# Altium footprint library PCB1.PcbLib: 17 footprints (part 1 of 2)
Each footprint in its own frame and in the unit in brackets; x right, y up, seen from the top. Pads: shape width x height; smd on the part's side, far side on the other; paste and mask are expansions set on the pad; w line width, h text height; cw(c..) or ccw(c..) is an arc to the next point about the centre after c.
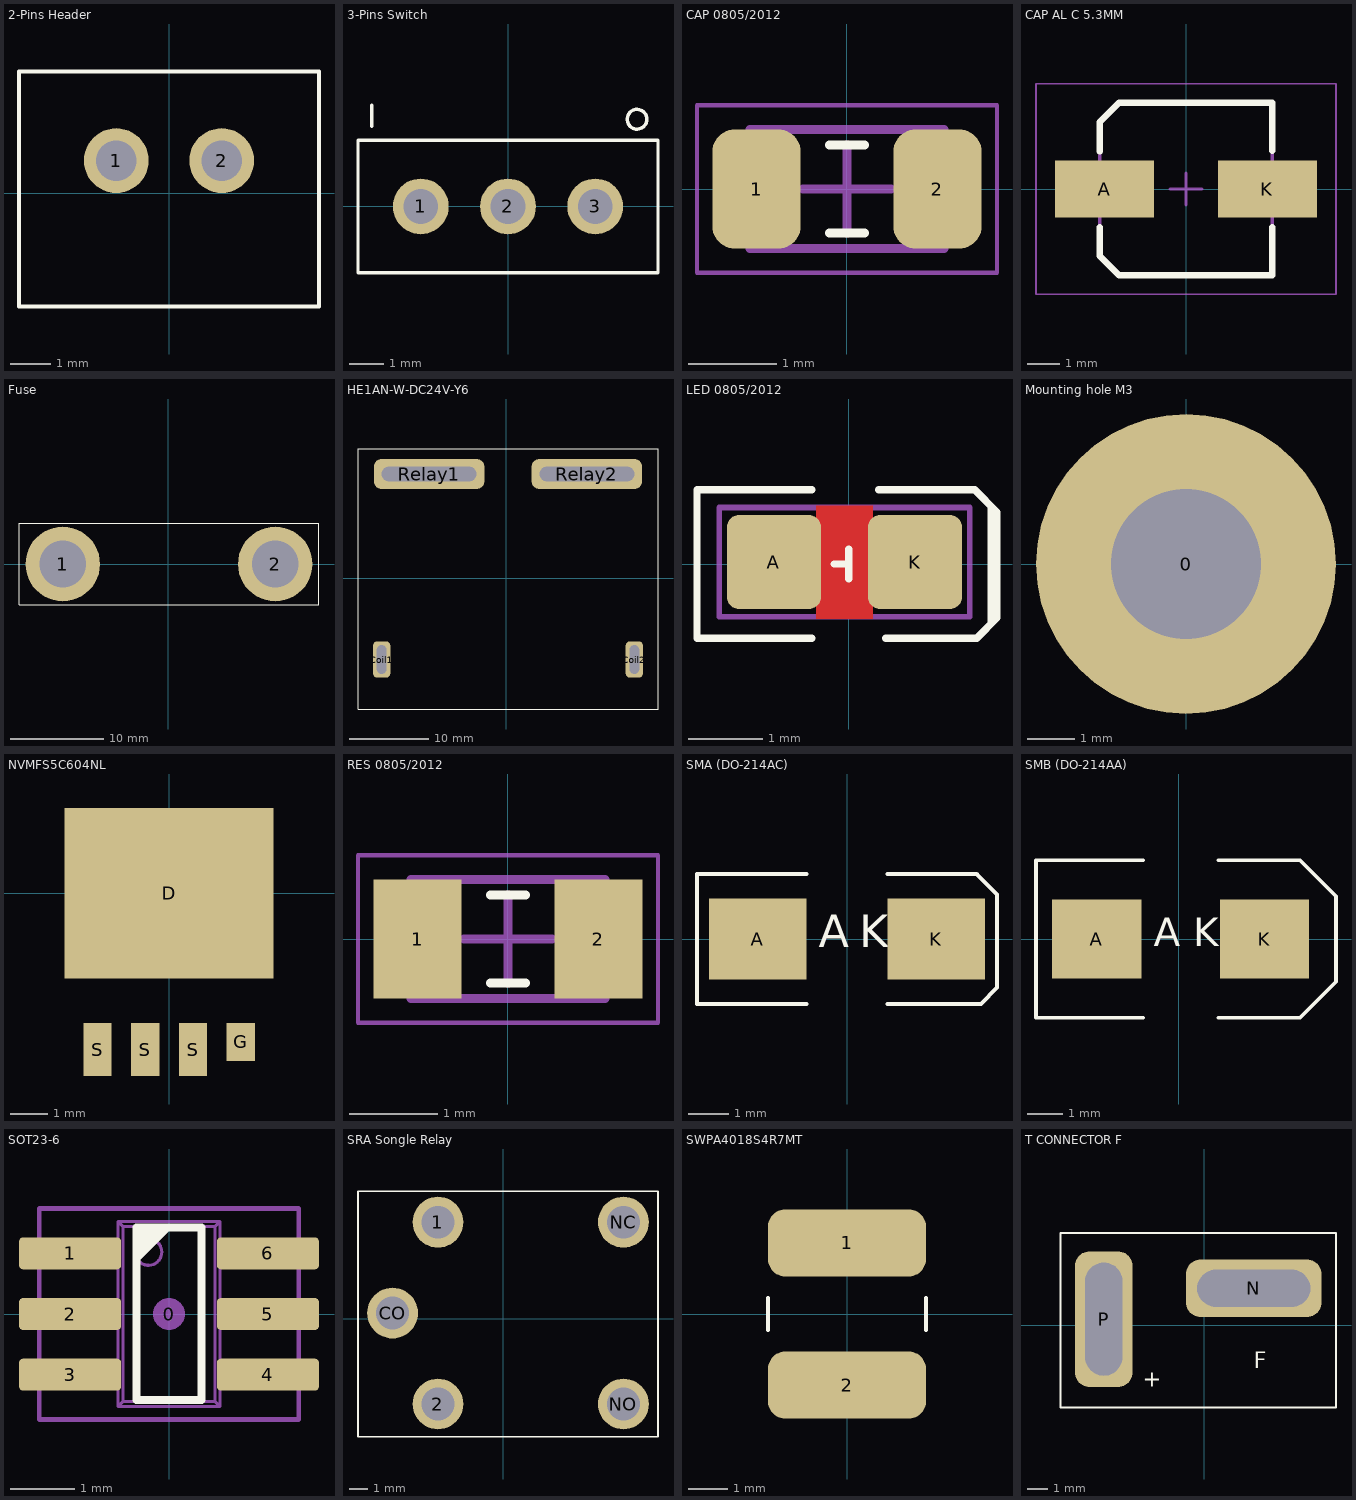
[diagram p0: the footprints below, top view; thin cyan lines are the x and y axes]

## 2-Pins Header [mm] "2-Pins Header with plastic surrounded"
pads (2):
  round 1.6 hole 1: 1(-1.3,0.8) 2(1.3,0.8)
Top Overlay:
  lines w0.1: -3.7,-2.8 -3.7,3 3.7,3 3.7,-2.8 -3.7,-2.8

## 3-Pins Switch [mm] "SS12d00G3"
pads (3):
  round 1.6 hole 1: 1(-2.5,0) 2(0,0) 3(2.5,0)
Top Overlay:
  circle w0.1: c3.7,2.5 r0.283
  lines w0.1: -3.9,2.3 -3.9,2.9 ; -4.3,-1.9 -4.3,1.9 4.3,1.9 4.3,-1.9 -4.3,-1.9

## CAP 0805/2012 [mm] "Cap ; 2.00x1.25mm ; EIA 0805 ; IPC Medium Density"
height 0.7
pads (2):
  rrect50% 1x1.35 smd: 1(-1.025,0) 2(1.025,0)
Top Overlay:
  lines w0.1: -0.2,-0.5 0.2,-0.5 ; -0.2,0.5 0.2,0.5
Mechanical 13:
  lines w0.1: -1.1,-0.675 -1.1,0.675 1.1,0.675 1.1,-0.675 -1.1,-0.675
Mechanical 15:
  lines w0.05: -1.7,-0.95 -1.7,0.95 1.7,0.95 1.7,-0.95 -1.7,-0.95
  lines w0.1: -0.5,0 0.5,0 ; 0,-0.5 0,0.5
3D body "0805 resistor.STEP": height 0.6, standoff 0, extent -0.95,-0.625 1.05,0.625

## CAP AL C 5.3MM [mm] "Al Electrolytic Cap ; 5.30x5.30x5.80mm ; IPC Low Density"
height 5.8
pads (2):
  rect 3.1x1.8 smd: A(-2.55,0) K(2.55,0)
Top Overlay:
  lines w0.2: -2.7,-1.2 -2.7,-2.1 -2.1,-2.7 2.7,-2.7 2.7,-1.2 ; -2.7,1.175 -2.7,1.4 -2.7,1.85 -2.7,2.1 -2.1,2.7 2.7,2.7 2.7,1.2
Mechanical 13:
  lines w0.1: -2.7,-2.1 -2.1,-2.7 2.7,-2.7 2.7,2.7 -2.1,2.7 -2.7,2.1 -2.7,-2.1
Mechanical 15:
  lines w0.05: -4.7,-3.3 -4.7,3.3 4.7,3.3 4.7,-3.3 -4.7,-3.3
  lines w0.1: -0.5,0 0.5,0 ; 0,-0.5 0,0.5
3D body "SW3dPS-capacitor size C.STEP": height 5.41, standoff -0.01, extent -2.95,-2.65 2.95,2.65

## Fuse [mm] "NOT FINIALIZED"
pads (2):
  round 8 hole 5: 1(-11.3,0) 2(11.5,0)
Top Overlay:
  lines w0.1: -16,-4.4 16.2,-4.4 16.2,4.4 -16,4.4 -16,2 -16,-2 -16,-4.4

## HE1AN-W-DC24V-Y6 [mm] "Electro-mechanical relay"
pads (4):
  rrect50% 2.2x4.6 hole 1.2 slot 3.6 at 90 deg: Coil1(-15.8,-10.3) Coil2(16.2,-10.3)
  rrect50% 14x3.8 hole 1.8 slot 12 at 0 deg: Relay1(-9.8,13.2) Relay2(10.2,13.2)
Top Overlay:
  lines w0.1: -18.8,-16.6 19.2,-16.6 19.2,16.4 -18.8,16.4 -18.8,-16.6
3D body: height 38.8, standoff 0, extent -18.8,-16.6 19.2,16.4

## LED 0805/2012 [mm] "LED ; EIA 0805"
pads (2):
  rrect25% 1.27x1.27 smd: A(-1.011,0.026) K(0.894,0.026)
Top Layer:
  pour cut-out: -0.44,0.788 0.322,0.788 0.322,-0.736 -0.44,-0.736
Top Overlay:
  lines w0.1: -0.5,-1 -2.05,-1 -2.05,1 -0.5,1 ; -0.2,0 0,0 ; 0,-0.2 0,0 ; 0,0.2 0,0 ; 0.4,1 1.7,1 2,0.7 2,-0.725 1.725,-1 0.5,-1 ; 1.925,-0.8 1.925,0.775
Mechanical 13:
  lines w0.076: -1.748,-0.711 -1.748,0.763 1.63,0.763 1.63,-0.711 -1.748,-0.711
3D body: height 0.1, standoff 0, extent -1.059,-0.599 0.941,0.651
3D body: height 0.1, standoff 0, extent -0.359,-0.374 0.241,0.426
3D body: height 0.8, standoff 0.3, extent -0.732,-0.599 0.669,0.651
3D body: height 0.3, standoff 0.1, extent -1.059,-0.599 0.941,0.651

## Mounting hole M3 [mm] "M2 standard mounting hole ; For M3 pillar"
pads (1):
  round 6.4 hole 3.2: 0(0,0)

## NVMFS5C604NL [mm] "Power MOSFET ; 60 V ; 1.2 mR ; 287A ; Single N-Channel"
pads (5):
  rect 5.55x4.53 smd: D(0,0)
  rect 0.75x1 smd: G(1.91,-3.95)
  rect 0.75x1.4 smd: S(-1.9,-4.15) S(-0.63,-4.15) S(0.64,-4.15)
Top Solder:
  rectangle: 1.4,-4.6 2.4,-3.3
  rectangle: -2.5,-5.2 1.2,-3.3
3D body "User Library-DFN5x6_SO8FL.STEP": height 1.13, standoff 0, extent -2.575,-4 2.575,2.15

## RES 0805/2012 [mm] "Res ; 2.00x1.25mm ; IPC Medium Density"
height 0.7
pads (2):
  rect 1x1.35 smd: 1(-1.025,0) 2(1.025,0)
Top Overlay:
  lines w0.1: -0.2,-0.5 0.2,-0.5 ; -0.2,0.5 0.2,0.5
Mechanical 13:
  lines w0.1: -1.1,-0.675 1.1,-0.675 1.1,0.675 -1.1,0.675 -1.1,-0.675
Mechanical 15:
  lines w0.05: -1.7,-0.95 1.7,-0.95 1.7,0.95 -1.7,0.95 -1.7,-0.95
  lines w0.1: -0.5,0 0.5,0 ; 0,-0.5 0,0.5
3D body "0805 resistor.STEP": height 0.6, standoff 0, extent -0.95,-0.625 1.05,0.625

## SMA (DO-214AC) [mm]
height 2.2
pads (2):
  rect 2.4x2 smd: A(-2.2,0) K(2.2,0)
Top Overlay:
  lines w0.1: -1,-1.6 -3.7,-1.6 -3.7,1.6 -1,1.6 ; 1,-1.6 3.2,-1.6 3.3,-1.6 3.7,-1.2 3.7,1.1 3.2,1.6 1,1.6
  text "K" at 0.3,-0.2 h0.8
  text "A" at -0.7,-0.2 h0.8
3D body "User Library-DO-214AC(SMA).step": height 2.34, standoff 0.06, extent -2.743,-1.397 2.743,1.397

## SMB (DO-214AA) [mm]
height 2.45
pads (2):
  rect 2.5x2.2 smd: A(-2.3,0) K(2.4,0)
Top Overlay:
  lines w0.1: -1,-2.2 -4,-2.2 -4,2.2 -1,2.2 ; 1.1,-2.2 3.4,-2.2 4.4,-1.2 4.4,1.2 3.4,2.2 1.1,2.2
  text "K" at 0.4,-0.2 h0.8
  text "A" at -0.7,-0.2 h0.8
3D body "User Library-DO-214AA(SMB).step": height 2.8, standoff 0.15, extent -2.794,-1.975 2.794,1.975

## SOT23-6 [mm]
height 1.6
pads (7):
  round 0.5 on Mech15: 0(0,0)
  rrect25% 1.6x0.5 smd: 1(-1.55,0.95) 2(-1.55,0) 3(-1.55,-0.95) 4(1.55,-0.95) 5(1.55,0) 6(1.55,0.95)
Top Overlay:
  region: -0.508,1.353 0.053,1.353 -0.508,0.792
  lines w0.127: -0.508,-1.347 0.508,-1.347 0.508,1.353 -0.508,1.353 -0.508,-1.347
  text "." at -0.7,1.5 h0.8
Mechanical 13:
  circle w0.05: c-0.32,0.97 r0.208
  lines w0.05: -1.191,-1.15 -1.191,-0.75 ; -1.191,-0.2 -1.191,0.2 ; -1.191,0.75 -1.191,1.15 ; -1.1,-1.15 -1.1,-0.75 ; -1.1,-0.2 -1.1,0.2 ; -1.1,0.75 -1.1,1.15 ; -1.094,-1.15 -1.094,-0.75 ; -1.094,-0.2 -1.094,0.2 ; -1.094,0.75 -1.094,1.15 ; -0.844,-1.15 -0.844,-0.75 ; -0.844,-0.2 -0.844,0.2 ; -0.844,0.75 -0.844,1.15 ; -0.8,-1.15 -1.4,-1.15 -1.4,-0.75 -0.8,-0.75 ; -0.8,-0.2 -1.4,-0.2 -1.4,0.2 -0.8,0.2 ; -0.8,0.75 -1.4,0.75 -1.4,1.15 -0.8,1.15 ; 0.8,-1.15 1.4,-1.15 1.4,-0.75 0.8,-0.75 ; 0.8,-0.2 1.4,-0.2 1.4,0.2 0.8,0.2 ; 0.8,0.75 1.4,0.75 1.4,1.15 0.8,1.15 ; 0.844,-1.15 0.844,-0.75 ; 0.844,-0.2 0.844,0.2 ; 0.844,0.75 0.844,1.15 ; 1.094,-1.15 1.094,-0.75 ; 1.094,-0.2 1.094,0.2 ; 1.094,0.75 1.094,1.15 ; 1.1,-1.15 1.1,-0.75 ; 1.1,-0.2 1.1,0.2 ; 1.1,0.75 1.1,1.15 ; 1.191,-1.15 1.191,-0.75 ; 1.191,-0.2 1.191,0.2 ; 1.191,0.75 1.191,1.15 ; -0.8,-1.45 -0.8,1.45 ; -0.8,-1.45 -0.719,-1.369 ; -0.8,-1.45 0.8,-1.45 ; -0.8,1.45 -0.719,1.369 ; -0.8,1.45 0.8,1.45 ; -0.719,-1.369 0.719,-1.369 ; -0.719,-1.369 -0.719,1.369 ; -0.719,1.369 0.719,1.369 ; 0.719,-1.369 0.8,-1.45 ; 0.719,-1.369 0.719,1.369 ; 0.719,1.369 0.8,1.45 ; 0.8,-1.45 0.8,1.45
Mechanical 15:
  lines w0.076: -2.032,-1.651 2.032,-1.651 2.032,1.651 -2.032,1.651 -2.032,-1.651
3D body "SOT23-6.STEP": height 1.44, standoff -0.01, extent -1.4,-1.45 1.4,1.45

## SRA Songle Relay [mm] "Songle Relay ; SRA ; 5 pins ; 20A"
pads (5):
  round 2.8 hole 1.8: 1(-3.6,5.3) 2(-3.6,-4.7) CO(-6.1,0.3) NC(6.6,5.3) NO(6.6,-4.7)
Top Overlay:
  lines w0.1: -8,-6.5 -8,7 8.5,7 8.5,-6.5 -8,-6.5
3D body: height 14.2, standoff 0, extent -8,-6.5 8.5,7

## SWPA4018S4R7MT [mm] "Wire Wound SMD Power Inductor ; 4.7uH ; 1.7A"
pads (2):
  rrect50% 4x1.7 smd: 1(0,1.8) 2(0,-1.8)
Top Overlay:
  lines w0.1: -2,-0.4 -2,0.4 ; 2,-0.4 2,0.4

## T CONNECTOR F [mm] "T-shape connector ; Female side"
pads (2):
  rrect50% 6.6x2.8 hole 1.8 slot 5.5 at 0 deg: N(2.4,1.8)
  rrect50% 2.8x6.6 hole 1.8 slot 5.5 at 90 deg: P(-4.9,0.3)
Top Overlay:
  lines w0.1: -7,-4 -7,4.5 6.4,4.5 6.4,-4 -7,-4
  text "+" at -3,-3 h0.8
  text "F" at 2.4,-2.1 h0.8